# EAGLE library part IR2112PBF (library International_Rectifier_By_element14_Batch_1)
HIGH AND LOW SIDE DRIVER
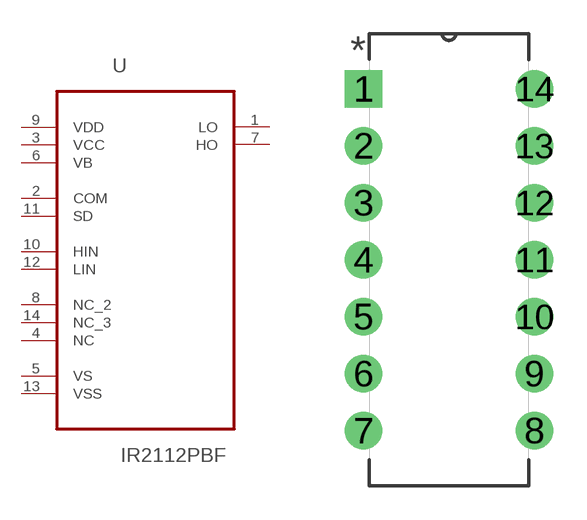
[diagram p49: symbol with the pads of DIP254P762X533-14; footprint DIP254P762X533-14]

Designator prefix U

## IR2112PBF (MPN: IR2112PBF; OC_FARNELL: 9101799; OC_NEWARK: 19K8417; PACKAGE: PDIP-14; SUPPLIER: INTERNATIONAL RECTIFIER)  [DIP254P762X533-14]
1  LO  out
2  COM  pas
3  VCC  pwr
4  NC  nc
5  VS  pwr
6  VB  pwr
7  HO  out
8  NC_2  nc
9  VDD  pwr
10  HIN  in
11  SD  in
12  LIN  in
13  VSS  pwr
14  NC_3  nc

## Footprint DIP254P762X533-14 (pad centres in mm)
drill 1.118 square: 1 -7.62,15.24
drill 1.118: 2 -7.62,12.7; 3 -7.62,10.16; 4 -7.62,7.62; 5 -7.62,5.08; 6 -7.62,2.54; 7 -7.62,0; 8 0,0; 9 0,2.54; 10 0,5.08; 11 0,7.62; 12 0,10.16; 13 0,12.7; 14 0,15.24